# Altium footprint library SEN0344.PcbLib: 1 footprints
Each footprint in its own frame and in the unit in brackets; x right, y up, seen from the top. Pads: shape width x height; smd on the part's side, far side on the other; paste and mask are expansions set on the pad; w line width, h text height; cw(c..) or ccw(c..) is an arc to the next point about the centre after c.
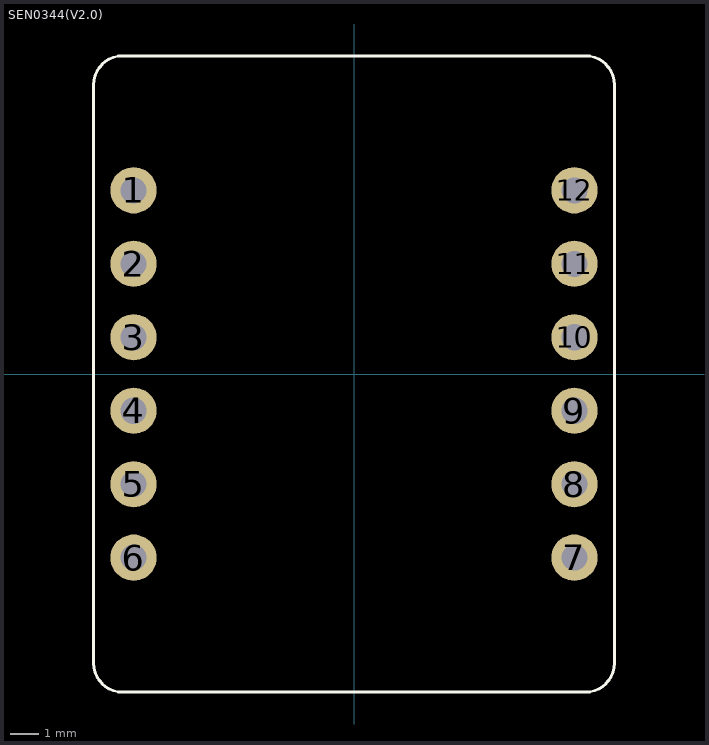
[diagram p0: the footprint, top view; thin cyan lines are the x and y axes]

## SEN0344(V2.0) [mm]
pads (12):
  round 1.6 hole 0.9: 1(-7.62,6.35) 2(-7.62,3.81) 3(-7.62,1.27) 4(-7.62,-1.27) 5(-7.62,-3.81) 6(-7.62,-6.35) 7(7.62,-6.35) 8(7.62,-3.81) 9(7.62,-1.27) 10(7.62,1.27) 11(7.62,3.81) 12(7.62,6.35)
Top Overlay:
  lines w0.1: -9,-10 ccw(c-8,-10) -8,-11 8,-11 ccw(c8,-10) 9,-10 9,10 ccw(c8,10) 8,11 -8,11 ccw(c-8,10) -9,10 -9,-10